# EAGLE library part RX4 (library ds_resistor)
Chip Resistor Arrays
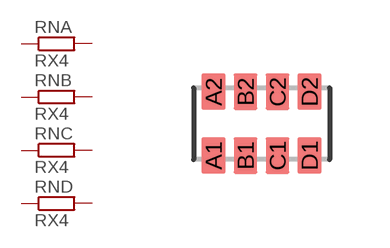
[diagram p4: symbol with the pads of _0603X4-1206; footprint _0603X4-1206]

Designator prefix RN; gates A=RN B=RN C=RN D=RN

## RX4  [_0603X4-1206]
A1  A:1  pas
A2  A:2  pas
B1  B:1  pas
B2  B:2  pas
C1  C:1  pas
C2  C:2  pas
D1  D:1  pas
D2  D:2  pas

## Footprint _0603X4-1206 (pad centres in mm)
smd 0.59 x 0.92: A1 -1.2,-0.8; A2 -1.2,0.8; B1 -0.4,-0.8; B2 -0.4,0.8; C1 0.4,-0.8; C2 0.4,0.8; D1 1.2,-0.8; D2 1.2,0.8